# Altium schematic symbol library Capacitor_0603_5_percent.SchLib: 25 symbols
Pins are listed as number, name and electrical type; pins without a type are passive.

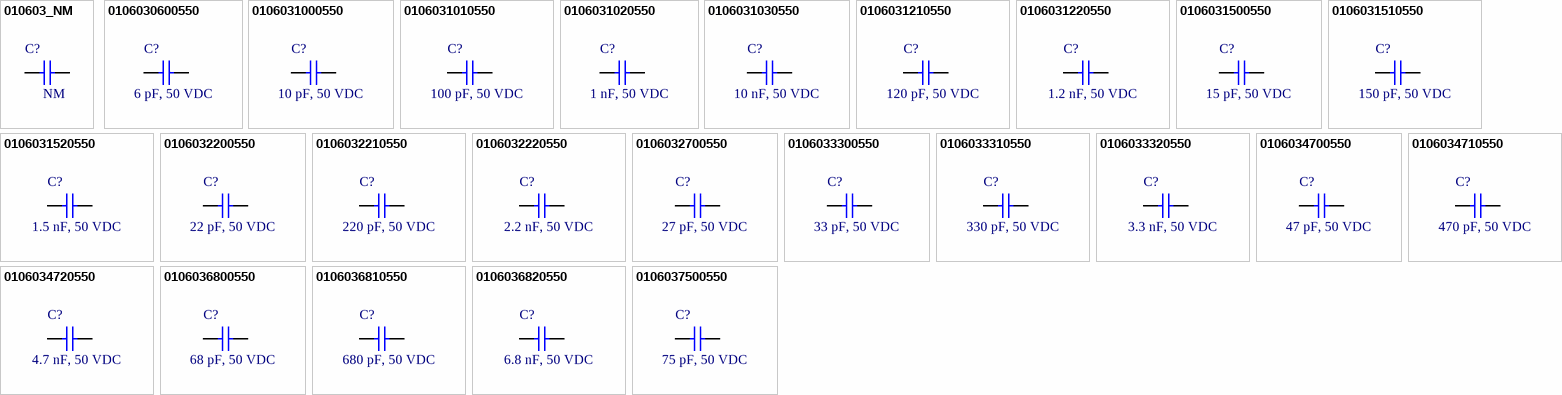
[diagram p0: symbols 010603_NM to 0106037500550]

## 010603_NM
designator C?, comment NM
CAP, size 0603, NM, N/A; Packaging: Tape and Reel; Capacitance: N/A; Supplier 1 URL: N/A; Supplier 2 URL: N/A; Supplier 3 URL: N/A; Tolerance: N/A; Voltage Rating DC: N/A; Value: NM; Supplier 1: N/A; Supplier 1 Part Number: N/A; Supplier 2: N/A; Supplier 2 Part Number: N/A; Supplier 3: thegioiic; Supplier 3 Part Number: N/A; Manufacturer: N/A; Manufacturer Part Number: N/A; ComponentLink1Description: Datasheet; ComponentLink1URL: N/A; Mount: SMD/SMT; Operating Temperature Max: + 85 C; Operating Temperature Min: - 40 C; Package / Case: 0603; LCSC Part #: N/A
footprint CAP_0603 (Chip Capacitor, 2-Leads, Body 1.80x0.80mm, IPC Medium Density)
pins: 1, 2

## 0106030600550
designator C?, comment 6 pF, 50 VDC
CAP, size 0603, 6 pF, 50 VDC, 5%; Manufacturer: TDK; Manufacturer Part Number: CGA3E2NP01H060D080AA; Capacitance: 6 pF; Tolerance: +/-5%; Voltage Rating DC: 50 VDC; Value: 6 pF; Packaging: Tape and Reel; Supplier 1 URL: https://www.mouser.com/ProductDetail/TDK/CGA3E2NP01H060D080AA?qs=xLDY6iXSiQboN%2F6my%2FnNkQ%3D%3D&utm_source=mouser-refine-download&utm_medium=file&utm_campaign=CGA3E2NP01H060D080AA&utm_content=TDK; Supplier 2 URL: https://www.digikey.com/en/products/detail/tdk-corporation/cga3e2np01h060d080aa/3949663; Supplier 3 URL: N/A; Supplier 1: Mouser; Supplier 1 Part Number: 810-CGA3E2NP01H060DA; Supplier 2: Digi-Key; Supplier 2 Part Number: 445-12427-2-ND; Supplier 3: thegioiic; Supplier 3 Part Number: N/A; ComponentLink1Description: Datasheet; ComponentLink1URL: https://product.tdk.com/system/files/dam/doc/product/capacitor/ceramic/mlcc/catalog/mlcc_automotive_hightemp_en.pdf?ref_disty=mouser; Mount: SMD/SMT; Operating Temperature Max: + 85 C; Operating Temperature Min: - 40 C; Package / Case: 0603; LCSC Part #: N/A
footprint CAP_0603
signal-integrity model CapModel (Model Description)
simulation model C_Capacitor_Default (Model Description)
pins: 1, 2

## 0106031000550
designator C?, comment 10 pF, 50 VDC
CAP, size 0603, 10 pF, 50 VDC, 5%; Manufacturer: Samsung Electro-Mechanics; Manufacturer Part Number: CL10C100JB8NNNC; Capacitance: 10 pF; Tolerance: +/-5%; Voltage Rating DC: 50 VDC; Value: 10 pF; Packaging: Tape and Reel; Supplier 1 URL: https://www.mouser.vn/ProductDetail/Samsung-Electro-Mechanics/CL10C100JB8NNNC?qs=349EhDEZ59oiQHnsqhYH%2Fg%3D%3D; Supplier 2 URL: https://www.digikey.com/en/products/detail/samsung-electro-mechanics/cl10c100jb8nnnc/3886685?_gl=1*p9nbwi*_up*MQ..*_gs*MQ..&gclid=Cj0KCQiAi9rJBhCYARIsALyPDtvs-_MYtdCn0eZ4-At-85pl60JLecl7u4frgw5_LNfkKGjJD3xpc9AaAmGIEALw_wcB&gclsrc=aw.ds&gbraid=0AAAAADrbLlhn86auAEYHJNei1aMywzjur; Supplier 3 URL: N/A; Supplier 1: Mouser; Supplier 1 Part Number: 187-CL10C100JB8NNNC; Supplier 2: Digi-Key; Supplier 2 Part Number: 1276-1027-2-ND; Supplier 3: thegioiic; Supplier 3 Part Number: N/A; ComponentLink1Description: Datasheet; ComponentLink1URL: https://www.lcsc.com/datasheet/C1634.pdf; Mount: SMD/SMT; Operating Temperature Max: + 85 C; Operating Temperature Min: - 40 C; Package / Case: 0603; LCSC Part #: C1634
footprint CAP_0603
signal-integrity model CapModel (Model Description)
simulation model C_Capacitor_Default (Model Description)
pins: 1, 2

## 0106031010550
designator C?, comment 100 pF, 50 VDC
CAP, size 0603, 100 pF, 50 VDC, 5%; Manufacturer: Samsung Electro-Mechanics; Manufacturer Part Number: CL10C101JB8NNNC; Capacitance: 100 pF; Tolerance: +/-5%; Voltage Rating DC: 50 VDC; Value: 100 pF; Packaging: Tape and Reel; Supplier 1 URL: https://www.mouser.com/ProductDetail/Samsung-Electro-Mechanics/CL10C101JB8NNNC?qs=349EhDEZ59pXXooLigsK%2FQ%3D%3D; Supplier 2 URL: https://www.digikey.com/en/products/detail/samsung-electro-mechanics/cl10c101jb8nnnc/3886666; Supplier 3 URL: N/A; Supplier 1: Mouser; Supplier 1 Part Number: 187-CL10C101JB8NNNC; Supplier 2: Digi-Key; Supplier 2 Part Number: 1276-1008-2-ND; Supplier 3: thegioiic; Supplier 3 Part Number: N/A; ComponentLink1Description: Datasheet; ComponentLink1URL: https://www.lcsc.com/datasheet/C14858.pdf; Mount: SMD/SMT; Operating Temperature Max: + 85 C; Operating Temperature Min: - 40 C; Package / Case: 0603; LCSC Part #: C14858
footprint CAP_0603
signal-integrity model CapModel (Model Description)
simulation model C_Capacitor_Default (Model Description)
pins: 1, 2

## 0106031020550
designator C?, comment 1 nF, 50 VDC
CAP, size 0603, 1 nF, 50 VDC, 5%; Manufacturer: TDK; Manufacturer Part Number: CGA3E2NP01H102J080AA; Capacitance: 1 nF; Tolerance: +/-5%; Voltage Rating DC: 50 VDC; Value: 1 nF; Packaging: Tape and Reel; Supplier 1 URL: https://www.mouser.com/ProductDetail/TDK/CGA3E2NP01H102J080AA?qs=xLDY6iXSiQaozl9q8leaqQ%3D%3D&utm_source=mouser-refine-download&utm_medium=file&utm_campaign=CGA3E2NP01H102J080AA&utm_content=TDK; Supplier 2 URL: https://www.digikey.com/en/products/detail/tdk-corporation/cga3e2np01h102j080aa/3949621; Supplier 3 URL: N/A; Supplier 1: Mouser; Supplier 1 Part Number: 810-CGA3E2NP01H102JA; Supplier 2: Digi-Key; Supplier 2 Part Number: 445-12385-2-ND; Supplier 3: thegioiic; Supplier 3 Part Number: N/A; ComponentLink1Description: Datasheet; ComponentLink1URL: https://product.tdk.com/system/files/dam/doc/product/capacitor/ceramic/mlcc/catalog/mlcc_automotive_hightemp_en.pdf?ref_disty=mouser; Mount: SMD/SMT; Operating Temperature Max: + 85 C; Operating Temperature Min: - 40 C; Package / Case: 0603; LCSC Part #: N/A
footprint CAP_0603
signal-integrity model CapModel (Model Description)
simulation model C_Capacitor_Default (Model Description)
pins: 1, 2

## 0106031030550
designator C?, comment 10 nF, 50 VDC
CAP, size 0603, 10 nF, 50 VDC, 5%; Manufacturer: TDK; Manufacturer Part Number: CGA3E2C0G1H103J080AE; Capacitance: 10 nF; Tolerance: +/-5%; Voltage Rating DC: 50 VDC; Value: 10 nF; Packaging: Tape and Reel; Supplier 1 URL: https://www.mouser.com/ProductDetail/TDK/CGA3E2C0G1H103J080AE?qs=P1JMDcb91o6ZkMITrWTUZQ%3D%3D&utm_source=mouser-refine-download&utm_medium=file&utm_campaign=CGA3E2C0G1H103J080AE&utm_content=TDK; Supplier 2 URL: https://www.digikey.com/en/products/detail/tdk-corporation/cga3e2c0g1h103j080ae/11697946; Supplier 3 URL: N/A; Supplier 1: Mouser; Supplier 1 Part Number: 810-CGA3E2C0G1H103J8; Supplier 2: Digi-Key; Supplier 2 Part Number: 445-CGA3E2C0G1H103J080AETR-ND; Supplier 3: thegioiic; Supplier 3 Part Number: N/A; ComponentLink1Description: Datasheet; ComponentLink1URL: https://product.tdk.com/system/files/dam/doc/product/capacitor/ceramic/mlcc/catalog/mlcc_automotive_soft_en.pdf?ref_disty=mouser; Mount: SMD/SMT; Operating Temperature Max: + 85 C; Operating Temperature Min: - 40 C; Package / Case: 0603; LCSC Part #: N/A
footprint CAP_0603
signal-integrity model CapModel (Model Description)
simulation model C_Capacitor_Default (Model Description)
pins: 1, 2

## 0106031210550
designator C?, comment 120 pF, 50 VDC
CAP, size 0603, 120 pF, 50 VDC, 5%; Manufacturer: TDK; Manufacturer Part Number: CGA3E2C0G1H121J080AA; Capacitance: 120 pF; Tolerance: +/-5%; Voltage Rating DC: 50 VDC; Value: 120 pF; Packaging: Tape and Reel; Supplier 1 URL: https://www.mouser.com/ProductDetail/TDK/CGA3E2C0G1H121J080AA?qs=FxQuwy19cyBg4sbqrDD07w%3D%3D&utm_source=mouser-refine-download&utm_medium=file&utm_campaign=CGA3E2C0G1H121J080AA&utm_content=TDK; Supplier 2 URL: https://www.digikey.com/en/products/detail/tdk-corporation/cga3e2c0g1h121j080aa/2443119; Supplier 3 URL: N/A; Supplier 1: Mouser; Supplier 1 Part Number: 810-CGA3E2C0G1H121J; Supplier 2: Digi-Key; Supplier 2 Part Number: 445-5641-2-ND; Supplier 3: thegioiic; Supplier 3 Part Number: N/A; ComponentLink1Description: Datasheet; ComponentLink1URL: https://product.tdk.com/system/files/dam/doc/product/capacitor/ceramic/mlcc/catalog/mlcc_automotive_general_en.pdf?ref_disty=mouser; Mount: SMD/SMT; Operating Temperature Max: + 85 C; Operating Temperature Min: - 40 C; Package / Case: 0603; LCSC Part #: N/A
footprint CAP_0603
signal-integrity model CapModel (Model Description)
simulation model C_Capacitor_Default (Model Description)
pins: 1, 2

## 0106031220550
designator C?, comment 1.2 nF, 50 VDC
CAP, size 0603, 1.2 nF, 50 VDC, 5%; Manufacturer: YAGEO; Manufacturer Part Number: CC0603JRNPO9BN122; Capacitance: 1.2 nF; Tolerance: +/-5%; Voltage Rating DC: 50 VDC; Value: 1.2 nF; Packaging: Tape and Reel; Supplier 1 URL: https://www.mouser.com/ProductDetail/YAGEO/CC0603JRNPO9BN122?qs=zEY9bCHj09fOX5wo62FJ3g%3D%3D; Supplier 2 URL: https://www.digikey.com/en/products/detail/yageo/cc0603jrnpo9bn122/5883604; Supplier 3 URL: N/A; Supplier 1: Mouser; Supplier 1 Part Number: 603-CC0603JR9BN122; Supplier 2: Digi-Key; Supplier 2 Part Number: 311-3962-2-ND; Supplier 3: thegioiic; Supplier 3 Part Number: N/A; ComponentLink1Description: Datasheet; ComponentLink1URL: https://www.lcsc.com/datasheet/C576816.pdf; Mount: SMD/SMT; Operating Temperature Max: + 85 C; Operating Temperature Min: - 40 C; Package / Case: 0603; LCSC Part #: C576816
footprint CAP_0603
signal-integrity model CapModel (Model Description)
simulation model C_Capacitor_Default (Model Description)
pins: 1, 2

## 0106031500550
designator C?, comment 15 pF, 50 VDC
CAP, size 0603, 15 pF, 50 VDC, 5%; Manufacturer: TDK; Manufacturer Part Number: CGA3E2NP01H150J080AA; Capacitance: 15 pF; Tolerance: +/-5%; Voltage Rating DC: 50 VDC; Value: 15 pF; Packaging: Tape and Reel; Supplier 1 URL: https://www.mouser.com/ProductDetail/TDK/CGA3E2NP01H150J080AA?qs=xLDY6iXSiQaG7IFLqTiW9w%3D%3D&utm_source=mouser-refine-download&utm_medium=file&utm_campaign=CGA3E2NP01H150J080AA&utm_content=TDK; Supplier 2 URL: https://www.digikey.com/en/products/detail/tdk-corporation/cga3e2np01h150j080aa/3949629; Supplier 3 URL: N/A; Supplier 1: Mouser; Supplier 1 Part Number: 810-CGA3E2NP01H150JA; Supplier 2: Digi-Key; Supplier 2 Part Number: 445-12393-2-ND; Supplier 3: thegioiic; Supplier 3 Part Number: N/A; ComponentLink1Description: Datasheet; ComponentLink1URL: https://product.tdk.com/system/files/dam/doc/product/capacitor/ceramic/mlcc/catalog/mlcc_automotive_hightemp_en.pdf?ref_disty=mouser; Mount: SMD/SMT; Operating Temperature Max: + 85 C; Operating Temperature Min: - 40 C; Package / Case: 0603; LCSC Part #: N/A
footprint CAP_0603
signal-integrity model CapModel (Model Description)
simulation model C_Capacitor_Default (Model Description)
pins: 1, 2

## 0106031510550
designator C?, comment 150 pF, 50 VDC
CAP, size 0603, 150 pF, 50 VDC, 5%; Manufacturer: TDK; Manufacturer Part Number: CGA3E2NP01H151J080AA; Capacitance: 150 pF; Tolerance: +/-5%; Voltage Rating DC: 50 VDC; Value: 150 pF; Packaging: Tape and Reel; Supplier 1 URL: https://www.mouser.com/ProductDetail/TDK/CGA3E2NP01H151J080AA?qs=xLDY6iXSiQbM3h2lmj%252BEHw%3D%3D&utm_source=mouser-refine-download&utm_medium=file&utm_campaign=CGA3E2NP01H151J080AA&utm_content=TDK; Supplier 2 URL: https://www.digikey.com/en/products/detail/tdk-corporation/cga3e2np01h151j080aa/3949628; Supplier 3 URL: N/A; Supplier 1: Mouser; Supplier 1 Part Number: 810-CGA3E2NP01H151JA; Supplier 2: Digi-Key; Supplier 2 Part Number: 445-12392-2-ND; Supplier 3: thegioiic; Supplier 3 Part Number: N/A; ComponentLink1Description: Datasheet; ComponentLink1URL: https://product.tdk.com/system/files/dam/doc/product/capacitor/ceramic/mlcc/catalog/mlcc_automotive_hightemp_en.pdf?ref_disty=mouser; Mount: SMD/SMT; Operating Temperature Max: + 85 C; Operating Temperature Min: - 40 C; Package / Case: 0603; LCSC Part #: N/A
footprint CAP_0603
signal-integrity model CapModel (Model Description)
simulation model C_Capacitor_Default (Model Description)
pins: 1, 2

## 0106031520550
designator C?, comment 1.5 nF, 50 VDC
CAP, size 0603, 1.5 nF, 50 VDC, 5%; Manufacturer: YAGEO; Manufacturer Part Number: CC0603JRNPO9BN152; Capacitance: 1.5 nF; Tolerance: +/-5%; Voltage Rating DC: 50 VDC; Value: 1.5 nF; Packaging: Tape and Reel; Supplier 1 URL: https://www.mouser.com/ProductDetail/YAGEO/CC0603JRNPO9BN152?qs=57cj7OiSijmcfciZx00JGw%3D%3D; Supplier 2 URL: https://www.digikey.com/en/products/detail/yageo/cc0603jrnpo9bn152/5195177; Supplier 3 URL: N/A; Supplier 1: Mouser; Supplier 1 Part Number: 603-CC603JRNPO9BN152; Supplier 2: Digi-Key; Supplier 2 Part Number: 311-1768-2-ND; Supplier 3: thegioiic; Supplier 3 Part Number: N/A; ComponentLink1Description: Datasheet; ComponentLink1URL: https://www.lcsc.com/datasheet/C107039.pdf; Mount: SMD/SMT; Operating Temperature Max: + 85 C; Operating Temperature Min: - 40 C; Package / Case: 0603; LCSC Part #: C107039
footprint CAP_0603
signal-integrity model CapModel (Model Description)
simulation model C_Capacitor_Default (Model Description)
pins: 1, 2

## 0106032200550
designator C?, comment 22 pF, 50 VDC
CAP, size 0603, 22 pF, 50 VDC, 5%; Manufacturer: YAGEO; Manufacturer Part Number: CC0603JRNPO9BN220; Capacitance: 22 pF; Tolerance: +/-5%; Voltage Rating DC: 50 VDC; Value: 22 pF; Packaging: Tape and Reel; Supplier 1 URL: https://www.mouser.vn/ProductDetail/YAGEO/CC0603JRNPO9BN220?qs=vTakOoo5QyIVMYOUTI%2F4zA%3D%3D; Supplier 2 URL: https://www.digikey.com/en/products/detail/yageo/cc0603jrnpo9bn220/302796; Supplier 3 URL: N/A; Supplier 1: Mouser; Supplier 1 Part Number: 603-CC603JRNPO9BN220; Supplier 2: Digi-Key; Supplier 2 Part Number: 311-1062-2-ND; Supplier 3: thegioiic; Supplier 3 Part Number: N/A; ComponentLink1Description: Datasheet; ComponentLink1URL: https://lcsc.com/datasheet/lcsc_datasheet_2506131730_YAGEO-CC0603JRNPO9BN220_C105620.pdf; Mount: SMD/SMT; Operating Temperature Max: + 85 C; Operating Temperature Min: - 40 C; Package / Case: 0603; LCSC Part #: C105620
footprint CAP_0603
signal-integrity model CapModel (Model Description)
simulation model C_Capacitor_Default (Model Description)
pins: 1, 2

## 0106032210550
designator C?, comment 220 pF, 50 VDC
CAP, size 0603, 220 pF, 50 VDC, 5%; Manufacturer: YAGEO; Manufacturer Part Number: CC0603JRNPO9BN221; Capacitance: 220 pF; Tolerance: +/-5%; Voltage Rating DC: 50 VDC; Value: 220 pF; Packaging: Tape and Reel; Supplier 1 URL: https://www.mouser.vn/ProductDetail/YAGEO/CC0603JRNPO9BN221?qs=AgBp2OyFlx%2Fh%252BnEOuusS0w%3D%3D; Supplier 2 URL: https://www.digikey.com/en/products/detail/yageo/cc0603jrnpo9bn221/302807; Supplier 3 URL: N/A; Supplier 1: Mouser; Supplier 1 Part Number: 603-C0603JRNPO9BN221; Supplier 2: Digi-Key; Supplier 2 Part Number: 311-1073-2-ND; Supplier 3: thegioiic; Supplier 3 Part Number: N/A; ComponentLink1Description: Datasheet; ComponentLink1URL: https://lcsc.com/datasheet/lcsc_datasheet_2506131730_YAGEO-CC0603JRNPO9BN221_C106210.pdf; Mount: SMD/SMT; Operating Temperature Max: + 85 C; Operating Temperature Min: - 40 C; Package / Case: 0603; LCSC Part #: C106210
footprint CAP_0603
signal-integrity model CapModel (Model Description)
simulation model C_Capacitor_Default (Model Description)
pins: 1, 2

## 0106032220550
designator C?, comment 2.2 nF, 50 VDC
CAP, size 0603, 2.2 nF, 50 VDC, 5%; Manufacturer: TDK; Manufacturer Part Number: CGA3E2C0G1H222J080AE; Capacitance: 2.2 nF; Tolerance: +/-5%; Voltage Rating DC: 50 VDC; Value: 2.2 nF; Packaging: Tape and Reel; Supplier 1 URL: https://www.mouser.com/ProductDetail/TDK/CGA3E2C0G1H222J080AE?qs=P1JMDcb91o5KNu2GzASXrQ%3D%3D&utm_source=mouser-refine-download&utm_medium=file&utm_campaign=CGA3E2C0G1H222J080AE&utm_content=TDK; Supplier 2 URL: https://www.digikey.com/en/products/detail/tdk-corporation/cga3e2c0g1h222j080ae/11697925; Supplier 3 URL: N/A; Supplier 1: Mouser; Supplier 1 Part Number: 810-CGA3E2C0G1H222J8; Supplier 2: Digi-Key; Supplier 2 Part Number: 445-CGA3E2C0G1H222J080AETR-ND; Supplier 3: thegioiic; Supplier 3 Part Number: N/A; ComponentLink1Description: Datasheet; ComponentLink1URL: https://product.tdk.com/system/files/dam/doc/product/capacitor/ceramic/mlcc/catalog/mlcc_automotive_soft_en.pdf?ref_disty=mouser; Mount: SMD/SMT; Operating Temperature Max: + 85 C; Operating Temperature Min: - 40 C; Package / Case: 0603; LCSC Part #: N/A
footprint CAP_0603
signal-integrity model CapModel (Model Description)
simulation model C_Capacitor_Default (Model Description)
pins: 1, 2

## 0106032700550
designator C?, comment 27 pF, 50 VDC
CAP, size 0603, 27 pF, 50 VDC, 5%; Manufacturer: Samsung Electro-Mechanics; Manufacturer Part Number: CL10C270JB81PNC; Capacitance: 27 pF; Tolerance: +/-5%; Voltage Rating DC: 50 VDC; Value: 27 pF; Packaging: Tape and Reel; Supplier 1 URL: https://www.mouser.com/ProductDetail/Samsung-Electro-Mechanics/CL10C270JB81PNC?qs=X6jEic%2FHinBDoSI%252BtJ5alQ%3D%3D; Supplier 2 URL: https://www.digikey.com/en/products/detail/samsung-electro-mechanics/cl10c270jb81pnc/3887905; Supplier 3 URL: N/A; Supplier 1: Mouser; Supplier 1 Part Number: 187-CL10C270JB81PNC; Supplier 2: Digi-Key; Supplier 2 Part Number: 1276-2247-2-ND; Supplier 3: thegioiic; Supplier 3 Part Number: N/A; ComponentLink1Description: Datasheet; ComponentLink1URL: https://product.tdk.com/system/files/dam/doc/product/capacitor/ceramic/mlcc/catalog/mlcc_automotive_hightemp_en.pdf?ref_disty=mouser; Mount: SMD/SMT; Operating Temperature Max: + 85 C; Operating Temperature Min: - 40 C; Package / Case: 0603; LCSC Part #: C346211
footprint CAP_0603
signal-integrity model CapModel (Model Description)
simulation model C_Capacitor_Default (Model Description)
pins: 1, 2

## 0106033300550
designator C?, comment 33 pF, 50 VDC
CAP, size 0603, 33 pF, 50 VDC, 5%; Manufacturer: TDK; Manufacturer Part Number: CGA3E2NP01H330J080AA; Capacitance: 33 pF; Tolerance: +/-5%; Voltage Rating DC: 50 VDC; Value: 33 pF; Packaging: Tape and Reel; Supplier 1 URL: https://www.mouser.com/ProductDetail/TDK/CGA3E2NP01H330J080AA?qs=xLDY6iXSiQZLs28ZlT4aFg%3D%3D&utm_source=mouser-refine-download&utm_medium=file&utm_campaign=CGA3E2NP01H330J080AA&utm_content=TDK; Supplier 2 URL: https://www.digikey.com/en/products/detail/tdk-corporation/cga3e2np01h330j080aa/3949645; Supplier 3 URL: N/A; Supplier 1: Mouser; Supplier 1 Part Number: 810-CGA3E2NP01H330JA; Supplier 2: Digi-Key; Supplier 2 Part Number: 445-12409-2-ND; Supplier 3: thegioiic; Supplier 3 Part Number: N/A; ComponentLink1Description: Datasheet; ComponentLink1URL: https://product.tdk.com/system/files/dam/doc/product/capacitor/ceramic/mlcc/catalog/mlcc_automotive_hightemp_en.pdf?ref_disty=mouser; Mount: SMD/SMT; Operating Temperature Max: + 85 C; Operating Temperature Min: - 40 C; Package / Case: 0603; LCSC Part #: N/A
footprint CAP_0603
signal-integrity model CapModel (Model Description)
simulation model C_Capacitor_Default (Model Description)
pins: 1, 2

## 0106033310550
designator C?, comment 330 pF, 50 VDC
CAP, size 0603, 330 pF, 50 VDC, 5%; Manufacturer: TDK; Manufacturer Part Number: CGA3E2C0G1H331J080AE; Capacitance: 330 pF; Tolerance: +/-5%; Voltage Rating DC: 50 VDC; Value: 330 pF; Packaging: Tape and Reel; Supplier 1 URL: https://www.mouser.com/ProductDetail/TDK/CGA3E2C0G1H331J080AE?qs=P1JMDcb91o7BZBrb2%2F%252BfEg%3D%3D&utm_source=mouser-refine-download&utm_medium=file&utm_campaign=CGA3E2C0G1H331J080AE&utm_content=TDK; Supplier 2 URL: https://www.digikey.com/en/products/detail/tdk-corporation/cga3e2c0g1h331j080ae/11697951; Supplier 3 URL: N/A; Supplier 1: Mouser; Supplier 1 Part Number: 810-CGA3E2C0G1H331J8; Supplier 2: Digi-Key; Supplier 2 Part Number: 445-CGA3E2C0G1H331J080AETR-ND; Supplier 3: thegioiic; Supplier 3 Part Number: N/A; ComponentLink1Description: Datasheet; ComponentLink1URL: https://product.tdk.com/system/files/dam/doc/product/capacitor/ceramic/mlcc/catalog/mlcc_automotive_soft_en.pdf?ref_disty=mouser; Mount: SMD/SMT; Operating Temperature Max: + 85 C; Operating Temperature Min: - 40 C; Package / Case: 0603; LCSC Part #: N/A
footprint CAP_0603
signal-integrity model CapModel (Model Description)
simulation model C_Capacitor_Default (Model Description)
pins: 1, 2

## 0106033320550
designator C?, comment 3.3 nF, 50 VDC
CAP, size 0603, 3.3 nF, 50 VDC, 5%; Manufacturer: TDK; Manufacturer Part Number: CGA3E2C0G1H332J080AE; Capacitance: 3.3 nF; Tolerance: +/-5%; Voltage Rating DC: 50 VDC; Value: 3.3 nF; Packaging: Tape and Reel; Supplier 1 URL: https://www.mouser.com/ProductDetail/TDK/CGA3E2C0G1H332J080AE?qs=P1JMDcb91o59%252BuVOytSHFw%3D%3D&utm_source=mouser-refine-download&utm_medium=file&utm_campaign=CGA3E2C0G1H332J080AE&utm_content=TDK; Supplier 2 URL: https://www.digikey.com/en/products/detail/tdk-corporation/cga3e2c0g1h332j080ae/11697916; Supplier 3 URL: N/A; Supplier 1: Mouser; Supplier 1 Part Number: 810-CGA3E2C0G1H332J8; Supplier 2: Digi-Key; Supplier 2 Part Number: 445-CGA3E2C0G1H332J080AETR-ND; Supplier 3: thegioiic; Supplier 3 Part Number: N/A; ComponentLink1Description: Datasheet; ComponentLink1URL: https://product.tdk.com/system/files/dam/doc/product/capacitor/ceramic/mlcc/catalog/mlcc_automotive_soft_en.pdf?ref_disty=mouser; Mount: SMD/SMT; Operating Temperature Max: + 85 C; Operating Temperature Min: - 40 C; Package / Case: 0603; LCSC Part #: N/A
footprint CAP_0603
signal-integrity model CapModel (Model Description)
simulation model C_Capacitor_Default (Model Description)
pins: 1, 2

## 0106034700550
designator C?, comment 47 pF, 50 VDC
CAP, size 0603, 47 pF, 50 VDC, 5%; Manufacturer: TDK; Manufacturer Part Number: CGA3E2NP01H470J080AA; Capacitance: 47 pF; Tolerance: +/-5%; Voltage Rating DC: 50 VDC; Value: 47 pF; Packaging: Tape and Reel; Supplier 1 URL: https://www.mouser.com/ProductDetail/TDK/CGA3E2NP01H470J080AA?qs=xLDY6iXSiQafbKrKYP6n6w%3D%3D&utm_source=mouser-refine-download&utm_medium=file&utm_campaign=CGA3E2NP01H470J080AA&utm_content=TDK; Supplier 2 URL: https://www.digikey.com/en/products/detail/tdk-corporation/cga3e2np01h470j080aa/3949653; Supplier 3 URL: N/A; Supplier 1: Mouser; Supplier 1 Part Number: 810-CGA3E2NP01H470JA; Supplier 2: Digi-Key; Supplier 2 Part Number: 445-12417-2-ND; Supplier 3: thegioiic; Supplier 3 Part Number: N/A; ComponentLink1Description: Datasheet; ComponentLink1URL: https://product.tdk.com/system/files/dam/doc/product/capacitor/ceramic/mlcc/catalog/mlcc_automotive_hightemp_en.pdf?ref_disty=mouser; Mount: SMD/SMT; Operating Temperature Max: + 85 C; Operating Temperature Min: - 40 C; Package / Case: 0603; LCSC Part #: N/A
footprint CAP_0603
signal-integrity model CapModel (Model Description)
simulation model C_Capacitor_Default (Model Description)
pins: 1, 2

## 0106034710550
designator C?, comment 470 pF, 50 VDC
CAP, size 0603, 470 pF, 50 VDC, 5%; Manufacturer: TDK; Manufacturer Part Number: CGA3E2C0G1H471J080AA; Capacitance: 470 pF; Tolerance: +/-5%; Voltage Rating DC: 50 VDC; Value: 470 pF; Packaging: Tape and Reel; Supplier 1 URL: https://www.mouser.com/ProductDetail/TDK/CGA3E2C0G1H471J080AA?qs=FxQuwy19cyDgYWT5Y4dMEA%3D%3D&utm_source=mouser-refine-download&utm_medium=file&utm_campaign=CGA3E2C0G1H471J080AA&utm_content=TDK; Supplier 2 URL: https://www.digikey.com/en/products/detail/tdk-corporation/cga3e2c0g1h471j080aa/2443126; Supplier 3 URL: N/A; Supplier 1: Mouser; Supplier 1 Part Number: 810-CGA3E2C0G1H471J; Supplier 2: Digi-Key; Supplier 2 Part Number: 445-5648-2-ND; Supplier 3: thegioiic; Supplier 3 Part Number: N/A; ComponentLink1Description: Datasheet; ComponentLink1URL: https://product.tdk.com/system/files/dam/doc/product/capacitor/ceramic/mlcc/catalog/mlcc_automotive_general_en.pdf?ref_disty=mouser; Mount: SMD/SMT; Operating Temperature Max: + 85 C; Operating Temperature Min: - 40 C; Package / Case: 0603; LCSC Part #: N/A
footprint CAP_0603
signal-integrity model CapModel (Model Description)
simulation model C_Capacitor_Default (Model Description)
pins: 1, 2

## 0106034720550
designator C?, comment 4.7 nF, 50 VDC
CAP, size 0603, 4.7 nF, 50 VDC, 5%; Manufacturer: TDK; Manufacturer Part Number: CGA3E2C0G1H472J080AE; Capacitance: 4.7 nF; Tolerance: +/-5%; Voltage Rating DC: 50 VDC; Value: 4.7 nF; Packaging: Tape and Reel; Supplier 1 URL: https://www.mouser.com/ProductDetail/TDK/CGA3E2C0G1H472J080AE?qs=P1JMDcb91o40yPGsg8XhIQ%3D%3D&utm_source=mouser-refine-download&utm_medium=file&utm_campaign=CGA3E2C0G1H472J080AE&utm_content=TDK; Supplier 2 URL: https://www.digikey.com/en/products/detail/tdk-corporation/cga3e2c0g1h472j080ae/11697957; Supplier 3 URL: N/A; Supplier 1: Mouser; Supplier 1 Part Number: 810-CGA3E2C0G1H472J8; Supplier 2: Digi-Key; Supplier 2 Part Number: 445-CGA3E2C0G1H472J080AETR-ND; Supplier 3: thegioiic; Supplier 3 Part Number: N/A; ComponentLink1Description: Datasheet; ComponentLink1URL: https://product.tdk.com/system/files/dam/doc/product/capacitor/ceramic/mlcc/catalog/mlcc_automotive_soft_en.pdf?ref_disty=mouser; Mount: SMD/SMT; Operating Temperature Max: + 85 C; Operating Temperature Min: - 40 C; Package / Case: 0603; LCSC Part #: N/A
footprint CAP_0603
signal-integrity model CapModel (Model Description)
simulation model C_Capacitor_Default (Model Description)
pins: 1, 2

## 0106036800550
designator C?, comment 68 pF, 50 VDC
CAP, size 0603, 68 pF, 50 VDC, 5%; Manufacturer: TDK; Manufacturer Part Number: CGA3E2NP01H680J080AA; Capacitance: 68 pF; Tolerance: +/-5%; Voltage Rating DC: 50 VDC; Value: 68 pF; Packaging: Tape and Reel; Supplier 1 URL: https://www.mouser.com/ProductDetail/TDK/CGA3E2NP01H680J080AA?qs=xLDY6iXSiQaqOSAuMryyzg%3D%3D&utm_source=mouser-refine-download&utm_medium=file&utm_campaign=CGA3E2NP01H680J080AA&utm_content=TDK; Supplier 2 URL: https://www.digikey.com/en/products/detail/tdk-corporation/cga3e2np01h680j080aa/3949662; Supplier 3 URL: N/A; Supplier 1: Mouser; Supplier 1 Part Number: 810-CGA3E2NP01H680JA; Supplier 2: Digi-Key; Supplier 2 Part Number: 445-12426-2-ND; Supplier 3: thegioiic; Supplier 3 Part Number: N/A; ComponentLink1Description: Datasheet; ComponentLink1URL: https://product.tdk.com/system/files/dam/doc/product/capacitor/ceramic/mlcc/catalog/mlcc_automotive_hightemp_en.pdf?ref_disty=mouser; Mount: SMD/SMT; Operating Temperature Max: + 85 C; Operating Temperature Min: - 40 C; Package / Case: 0603; LCSC Part #: N/A
footprint CAP_0603
signal-integrity model CapModel (Model Description)
simulation model C_Capacitor_Default (Model Description)
pins: 1, 2

## 0106036810550
designator C?, comment 680 pF, 50 VDC
CAP, size 0603, 680 pF, 50 VDC, 5%; Manufacturer: Samsung Electro-Mechanics; Manufacturer Part Number: CL10C681JB8NNNC; Capacitance: 680 pF; Tolerance: +/-5%; Voltage Rating DC: 50 VDC; Value: 680 pF; Packaging: Tape and Reel; Supplier 1 URL: https://www.mouser.com/ProductDetail/Samsung-Electro-Mechanics/CL10C681JB8NNNC?qs=349EhDEZ59oHCQrlWusVEg%3D%3D; Supplier 2 URL: https://www.digikey.com/en/products/detail/samsung-electro-mechanics/cl10c681jb8nnnc/3887478; Supplier 3 URL: N/A; Supplier 1: Mouser; Supplier 1 Part Number: 187-CL10C681JB8NNNC; Supplier 2: Digi-Key; Supplier 2 Part Number: 1276-1820-2-ND; Supplier 3: thegioiic; Supplier 3 Part Number: N/A; ComponentLink1Description: Datasheet; ComponentLink1URL: https://www.lcsc.com/datasheet/C30816.pdf; Mount: SMD/SMT; Operating Temperature Max: + 85 C; Operating Temperature Min: - 40 C; Package / Case: 0603; LCSC Part #: C30816
footprint CAP_0603
signal-integrity model CapModel (Model Description)
simulation model C_Capacitor_Default (Model Description)
pins: 1, 2

## 0106036820550
designator C?, comment 6.8 nF, 50 VDC
CAP, size 0603, 6.8 nF, 50 VDC, 5%; Manufacturer: TDK; Manufacturer Part Number: CGA3E2C0G1H682J080AE; Capacitance: 6.8 nF; Tolerance: +/-5%; Voltage Rating DC: 50 VDC; Value: 6.8 nF; Packaging: Tape and Reel; Supplier 1 URL: https://www.mouser.com/ProductDetail/TDK/CGA3E2C0G1H682J080AE?qs=P1JMDcb91o602kSKBfoYXA%3D%3D&utm_source=mouser-refine-download&utm_medium=file&utm_campaign=CGA3E2C0G1H682J080AE&utm_content=TDK; Supplier 2 URL: https://www.digikey.com/en/products/detail/tdk-corporation/cga3e2c0g1h682j080ae/11697931; Supplier 3 URL: N/A; Supplier 1: Mouser; Supplier 1 Part Number: 810-CGA3E2C0G1H682J8; Supplier 2: Digi-Key; Supplier 2 Part Number: 445-CGA3E2C0G1H682J080AETR-ND; Supplier 3: thegioiic; Supplier 3 Part Number: N/A; ComponentLink1Description: Datasheet; ComponentLink1URL: https://product.tdk.com/system/files/dam/doc/product/capacitor/ceramic/mlcc/catalog/mlcc_automotive_soft_en.pdf?ref_disty=mouser; Mount: SMD/SMT; Operating Temperature Max: + 85 C; Operating Temperature Min: - 40 C; Package / Case: 0603; LCSC Part #: N/A
footprint CAP_0603
signal-integrity model CapModel (Model Description)
simulation model C_Capacitor_Default (Model Description)
pins: 1, 2

## 0106037500550
designator C?, comment 75 pF, 50 VDC
CAP, size 0603, 75 pF, 50 VDC, 5%; Manufacturer: YAGEO; Manufacturer Part Number: CC0603JRNPO9BN750; Capacitance: 75 pF; Tolerance: +/-5%; Voltage Rating DC: 50 VDC; Value: 75 pF; Packaging: Tape and Reel; Supplier 1 URL: https://www.mouser.com/ProductDetail/YAGEO/CC0603JRNPO9BN750?qs=57cj7OiSijlrcbin04ub8w%3D%3D; Supplier 2 URL: https://www.digikey.com/en/products/detail/yageo/cc0603jrnpo9bn750/5883623; Supplier 3 URL: N/A; Supplier 1: Mouser; Supplier 1 Part Number: 603-CC603JRNPO9BN750; Supplier 2: Digi-Key; Supplier 2 Part Number: 311-3975-2-ND; Supplier 3: thegioiic; Supplier 3 Part Number: N/A; ComponentLink1Description: Datasheet; ComponentLink1URL: https://www.lcsc.com/datasheet/C282074.pdf; Mount: SMD/SMT; Operating Temperature Max: + 85 C; Operating Temperature Min: - 40 C; Package / Case: 0603; LCSC Part #: C282074
footprint CAP_0603
signal-integrity model CapModel (Model Description)
simulation model C_Capacitor_Default (Model Description)
pins: 1, 2